# Altium footprint library 0.91inch_OLED_PCB_Package_Library.PcbLib: 1 footprints
Each footprint in its own frame and in the unit in brackets; x right, y up, seen from the top. Pads: shape width x height; smd on the part's side, far side on the other; paste and mask are expansions set on the pad; w line width, h text height; cw(c..) or ccw(c..) is an arc to the next point about the centre after c.
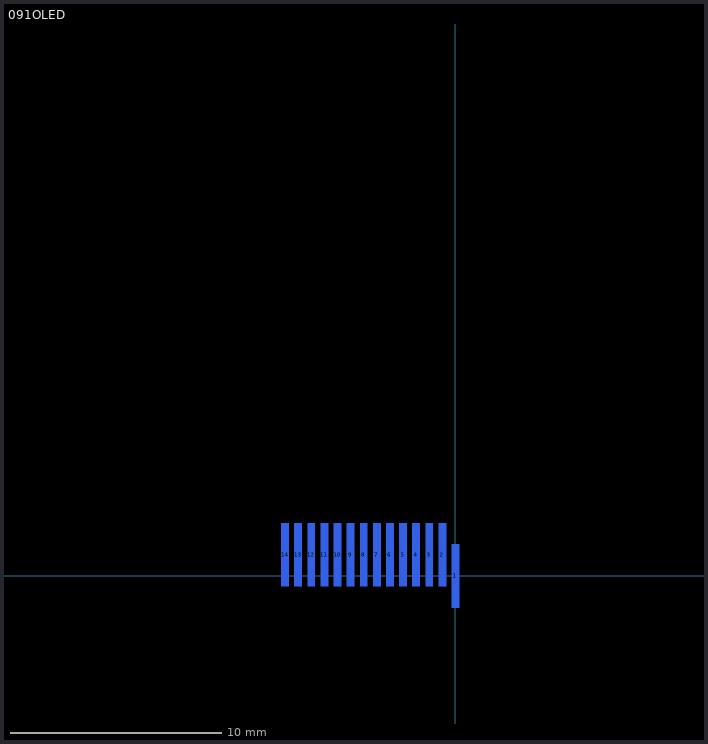
[diagram p0: the footprint, top view; thin cyan lines are the x and y axes]

## 091OLED [mm]
pads (14):
  rect 0.35x3 smd far side: 1(0,0) 2(-0.62,1) 3(-1.24,1) 4(-1.86,1) 5(-2.48,1) 6(-3.1,1) 7(-3.72,1) 8(-4.34,1) 9(-4.96,1) 10(-5.58,1) 11(-6.2,1) 12(-6.82,1) 13(-7.44,1) 14(-8.06,1)
Bottom Overlay:
  circle w0.2: c-0.406,-3.632 r0.1
  lines w0.254: -8.63,-4 -8.63,1.75 -8.393,1.75 ; 0.367,1.75 0.57,1.75 ; 0.57,-5 0.57,0.75 ; -11.1,-5.5 0.6,-5.5 0.6,24.6 -11.1,24.6 -11.1,-5.5
  text "14" at -8.179,-3.124 h1.02
  text "1" at -0.356,-3.124 h1.02